# EAGLE library part IS25LQ080B- (library memory-issi)
EEPROM - 8 Mbit Serial Flash 3V QUAD SERIAL FLASH MEMORY WITH MULTI-I/O SPI
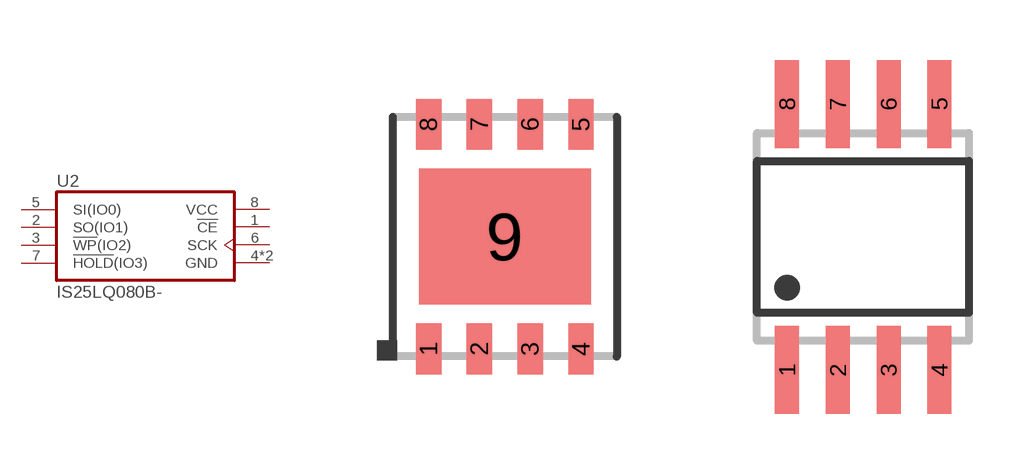
[diagram p0: symbol with the pads of WSON8-JK; footprints WSON8-JK, SO08-JB]

Designator prefix U2

## IS25LQ080B-ZP  [WSON8-JK]
1  !CE!  in
2  SO(IO1)
3  !WP!(IO2)
4  GND  pwr
5  SI(IO0)
6  SCK  in
7  !HOLD!(IO3)
8  VCC  pwr
9  GND  pwr

## IS25LQ080B-JB  [SO08-JB]
1  !CE!  in
2  SO(IO1)
3  !WP!(IO2)
4  GND  pwr
5  SI(IO0)
6  SCK  in
7  !HOLD!(IO3)
8  VCC  pwr

## IS25LQ080B-JN  [SO08-JN]
Pads as for SO08-JB

## Footprint WSON8-JK (pad centres in mm)
8-WSON 8-Contact Very-very-thin Small Outline No-lead body 6.00 x 5.00 mm
smd 0.635 x 1.27: 1 -1.905,-2.81; 2 -0.635,-2.81; 3 0.635,-2.81; 4 1.905,-2.81; 5 1.905,2.81; 6 0.635,2.81; 7 -0.635,2.81; 8 -1.905,2.81
smd 4.3 x 3.4: 9 0,0

## Footprint SO08-JB (pad centres in mm)
SMALL OUTLINE INTEGRATED CIRCUIT 200 MIL BODY WIDTH (5.2MM X 8MM)
smd 0.6 x 2.2: 1 -1.905,-3.33; 2 -0.635,-3.33; 3 0.635,-3.33; 4 1.905,-3.33; 5 1.905,3.33; 6 0.635,3.33; 7 -0.635,3.33; 8 -1.905,3.33

## Footprint SO08-JN (pad centres in mm)
SMALL OUTLINE INTEGRATED CIRCUIT 150 mil (3.9 mm) body/JEDEC MS-012AA
smd 0.6 x 2.2: 1 -1.905,-2.6; 2 -0.635,-2.6; 3 0.635,-2.6; 4 1.905,-2.6; 5 1.905,2.6; 6 0.635,2.6; 7 -0.635,2.6; 8 -1.905,2.6